# Altium footprint library aPassive.PcbLib: 212 footprints (part 14 of 14)
Each footprint in its own frame and in the unit in brackets; x right, y up, seen from the top. Pads: shape width x height; smd on the part's side, far side on the other; paste and mask are expansions set on the pad; w line width, h text height; cw(c..) or ccw(c..) is an arc to the next point about the centre after c.
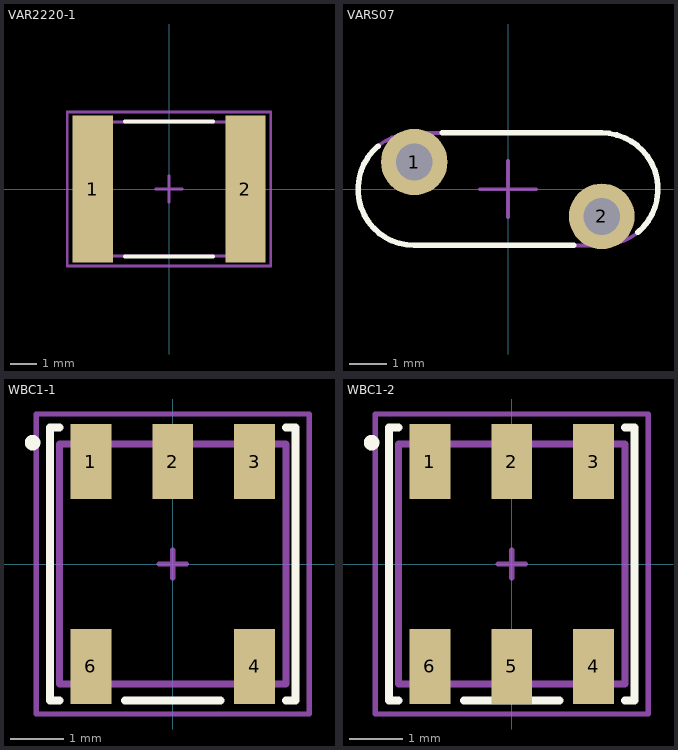
[diagram p13: the footprints below, top view; thin cyan lines are the x and y axes]

## VAR2220-1 [mm] "Varistor capacitor 2220"
height 2.5
pads (2):
  rect 1.5x5.5 smd: 1(-2.85,0) 2(2.85,0)
Top Overlay:
  lines w0.15: -1.65,-2.525 1.65,-2.525 ; -1.65,2.525 1.65,2.525
Mechanical 13:
  lines w0.1: -2.85,-2.5 -2.85,2.5 2.85,2.5 2.85,-2.5 -2.85,-2.5
Mechanical 15:
  lines w0.1: -0.5,0 0.5,0 ; 0,-0.5 0,0.5 ; -3.8,-2.875 -3.8,2.875 3.8,2.875 3.8,-2.875 -3.8,-2.875
3D body: height 1.8, standoff 0, extent 2.2,-2.5 2.85,2.5
3D body: height 1.8, standoff 0, extent -2.85,-2.5 -2.2,2.5
3D body: height 1.8, standoff 0, extent -2.2,-2.5 2.2,2.5

## VARS07 [mm]
pads (2):
  round 1.8 hole 1: 1(-2.54,0.737)
  round 1.778 hole 1: 2(2.54,-0.737)
Top Overlay:
  lines w0.15: -3.52,1.167 ccw(c-2.54,0) -2.54,-1.524 1.778,-1.524 ; -1.778,1.524 2.54,1.524 cw(c2.54,0) 3.52,-1.167
Mechanical 13:
  lines w0.102: -2.54,-1.524 cw(c-2.54,0) -2.54,1.524 2.54,1.524 cw(c2.54,0) 2.54,-1.524 -2.54,-1.524
Mechanical 15:
  lines w0.102: -0.762,0 0.762,0 ; 0,-0.762 0,0.762
3D body: height 0.5, standoff -3, extent -2.946,0.333 -2.134,1.143
3D body: height 8.99, standoff 1.01, extent -3.984,-1.524 3.984,1.524
3D body: height 5, standoff 0.5, extent -3.344,-0.073 -1.75,1.524
3D body: height 5, standoff 0.5, extent 1.75,-1.524 3.344,0.073
3D body: height 0.5, standoff -3, extent 2.134,-1.143 2.946,-0.333

## WBC1-1 [mil] "RF transformer 5pin"
height 120
pads (5):
  rect 30x55 smd: 1(-60,75) 2(0,75) 3(60,75) 4(60,-75) 6(-60,-75)
Top Overlay:
  circle w5.91: c-102.76,89 r2.76
  lines w5.91: -83,-100 -90,-100 -90,100 -83,100 ; -35,-100 35,-100 ; 83,-100 90,-100 90,100 83,100
Mechanical 13:
  circle w4: c-60,64 r10
  lines w5: -83,-88 83,-88 83,88 -83,88 -83,-88
Mechanical 15:
  lines w3.94: -10,0 10,0 ; 0,-10 0,10
  lines w4: -100,-110 -100,110 100,110 100,-110 -100,-110
3D body: height 31.89, standoff 31.5, extent -60.2,45.8 -39.8,66.2
3D body: height 141.73, standoff 47.24, extent -14.76,-42.32 14.76,42.32
3D body: height 141.73, standoff 47.24, extent 55.12,-42.32 70.87,42.32
3D body: height 141.73, standoff 47.24, extent -70.87,-42.32 -55.12,42.32
3D body: height 157.48, standoff 141.73, extent -70.87,-42.32 70.87,42.32
3D body: height 31.5, standoff 0, extent -83,-88 83,88
3D body: height 47.24, standoff 31.5, extent -70.87,-42.32 70.87,42.32
3D body: height 82.68, standoff 70.87, extent -51.18,-59.05 51.18,59.06
3D body: height 114.17, standoff 102.36, extent -51.18,-59.06 51.18,59.06
3D body: height 66.93, standoff 55.12, extent -51.18,-59.06 51.18,59.06
3D body: height 98.43, standoff 86.61, extent -51.18,-59.06 51.18,59.06
3D body: height 129.92, standoff 118.11, extent -51.18,-59.06 51.18,59.06

## WBC1-2 [mil] "RF transformer 6pin"
height 120.08
pads (6):
  rect 30x55 smd: 1(-60,75) 2(0,75) 3(60,75) 4(60,-75) 5(0,-75) 6(-60,-75)
Top Overlay:
  circle w5.91: c-102.76,89 r2.76
  lines w5.91: -83,-100 -90,-100 -90,100 -83,100 ; -35,-100 35,-100 ; 83,-100 90,-100 90,100 83,100
Mechanical 13:
  circle w4: c-60,64 r10
  lines w5: -83,-88 -83,88 83,88 83,-88 -83,-88
Mechanical 15:
  lines w3.94: -10,0 10,0 ; 0,-10 0,10
  lines w4: -100,-110 -100,110 100,110 100,-110 -100,-110
3D body: height 120, standoff 0, extent -83,-88 83,88